# Altium schematic symbol library SCH - POWER - SWITCHMODE - TI LMR51440-Q1 DRR.SchLib: 1 symbol
Pins are listed as number, name and electrical type; pins without a type are passive.

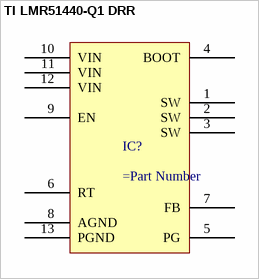
[diagram p0: symbol TI LMR51440-Q1 DRR]

## TI LMR51440-Q1 DRR
designator IC?
pins: 1 SW, 2 SW, 3 SW, 4 BOOT, 5 PG, 6 RT, 7 FB, 8 AGND, 9 EN, 10 VIN, 11 VIN, 12 VIN, 13 PGND